# EAGLE library part WE_STST_TRANSFORMER_1:1_SMD_74930030 (library ADIN1110)
WE-STST Super Tiny Signal Transformer with PoE Wurth Electronics Part No: 74930030
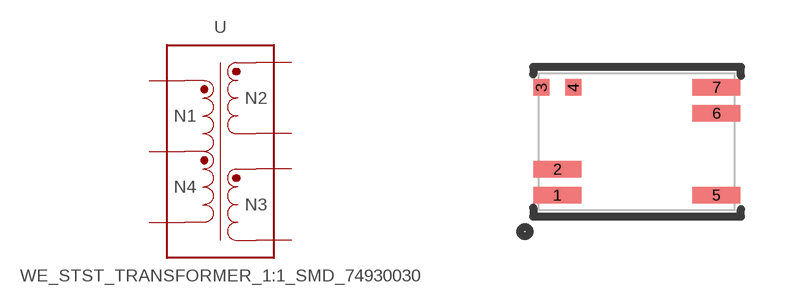
[diagram p1: symbol with the pads of WE_STST_TRANSFORMER_1:1_SMD_3.2X4.7MM_74930030; footprint WE_STST_TRANSFORMER_1:1_SMD_3.2X4.7MM_74930030]

Designator prefix -

## WE_STST_TRANSFORMER_1:1_SMD_74930030_3.2X4.7MM (PROD_ID: COMP-16426; VALUE: WE-STST)  [WE_STST_TRANSFORMER_1:1_SMD_3.2X4.7MM_74930030]
1  1
2  2
3  3
4  4
5  5
6  6
7  7

## Footprint WE_STST_TRANSFORMER_1:1_SMD_3.2X4.7MM_74930030 (pad centres in mm)
smd 1.2 x 0.41: 1 -1.99,-1.35; 2 -1.99,-0.7; 5 1.99,-1.35; 6 1.99,0.7; 7 1.99,1.35
smd 0.4 x 0.41: 3 -2.39,1.35; 4 -1.59,1.35